# Altium schematic symbol library RCL.SchLib: 16 symbols
Pins are listed as number, name and electrical type; pins without a type are passive.

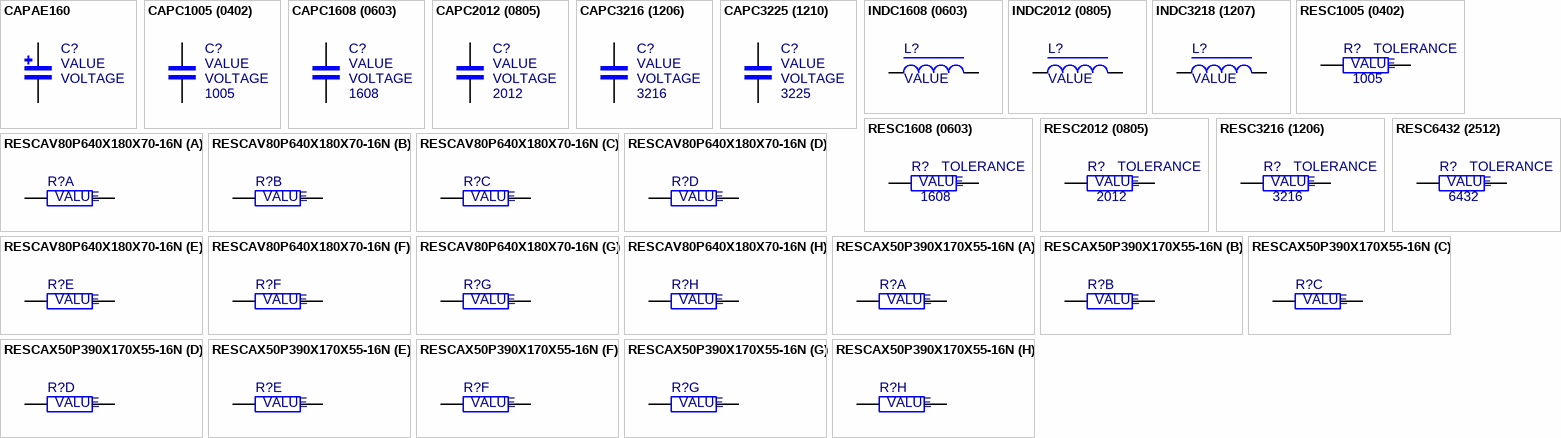
[diagram p0: symbols CAPAE160 to RESCAX50P390X170X55-16N]

## CAPAE160
designator C?  Voltage Rating: VOLTAGE  (hidden comment: CAPAE160)
Capacitor; Last Updated: 2015-06-18; ComponentLink1Description: Datasheet; Created: 2015-06-18; Value: VALUE
pins: 1, 2

## CAPC1005 (0402)
designator C?  Package: 1005  Voltage Rating: VOLTAGE  (hidden comment: CAPC1005 (0402))
Capacitor; Package Imperial: 0402; Last Updated: 2015-02-15; ComponentLink1Description: Datasheet; Created: 2014-05-22; Value: VALUE
footprint CAPC1005 (0402) (Metric (Imperial))
pins: 1, 2

## CAPC1608 (0603)
designator C?  Package: 1608  Voltage Rating: VOLTAGE  (hidden comment: CAPC1608 (0603))
Capacitor; Package Imperial: 0603; ComponentLink1Description: Datasheet; Last Updated: 2014-11-17; Created: 2014-11-17; Value: VALUE
footprint CAPC1608 (0603) (Metric (Imperial))
pins: 1, 2

## CAPC2012 (0805)
designator C?  Package: 2012  Voltage Rating: VOLTAGE  (hidden comment: CAPC2012 (0805))
Capacitor; Package Imperial: 0805; Last Updated: 2015-02-15; Tolerance: TOLERANCE; ComponentLink1Description: Datasheet; Created: 2014-05-20; Value: VALUE
footprint CAPC2012 (0805) (Metric (Imperial))
pins: 1, 2

## CAPC3216 (1206)
designator C?  Package: 3216  Voltage Rating: VOLTAGE  (hidden comment: CAPC3216 (1206))
Capacitor; Package Imperial: 1206; ComponentLink1Description: Datasheet; Last Updated: 2015-02-15; Created: 2013-09-28; Value: VALUE
footprint CAPC3216 (1206) (Metric (Imperial))
pins: 1, 2

## CAPC3225 (1210)
designator C?  Package: 3225  Voltage Rating: VOLTAGE  (hidden comment: CAPC3225 (1210))
Capacitor; Package Imperial: 1210; Last Updated: 2015-02-15; ComponentLink1Description: Datasheet; Created: 2014-06-09; Value: VALUE
footprint CAPC3225 (1210) (Metric (Imperial))
pins: 1, 2

## INDC1608 (0603)
designator L?  (value not drawn)
Inductor; ComponentLink1Description: Datasheet; Last Updated: 2015-02-15; Created: 2015-02-15; Value: VALUE
footprint INDC1608 (0603) (Metric (Imperial))
pins: 1, 2

## INDC2012 (0805)
designator L?  (value not drawn)
Inductor; ComponentLink1Description: Datasheet; Last Updated: 2015-02-15; Created: 2015-02-15; Value: VALUE
footprint INDC2012 (0805) (Metric (Imperial))
pins: 1, 2

## INDC3218 (1207)
designator L?  (value not drawn)
Inductor; ComponentLink1Description: Datasheet; Last Updated: 2015-03-20; Created: 2015-03-20; Value: VALUE
footprint INDC3218 (1207) (Chip Inductor, 2-Leads, Body 3,20x1,80mm, IPC Medium Density)
pins: 1, 2

## RESC1005 (0402)
designator R?  Package: 1005  (hidden comment: RESC1005 (0402))
Resistor; Package Imperial: 0402; Last Updated: 2015-02-15; ComponentLink1Description: Datasheet; Created: 2014-06-08; Tolerance: TOLERANCE; Value: VALUE
footprint RESC1005 (0402) (Metric (Imperial))
pins: 1, 2

## RESC1608 (0603)
designator R?  Package: 1608  (hidden comment: RESC1608 (0603))
Resistor; Power Rating: 0.1W; Package Imperial: 0603; ComponentLink1Description: Datasheet; Last Updated: 2015-02-15; Created: 2014-02-07; Tolerance: TOLERANCE; Value: VALUE
footprint RESC1608 (0603) (Metric (Imperial))
pins: 1, 2

## RESC2012 (0805)
designator R?  Package: 2012  (hidden comment: RESC2012 (0805))
Resistor; Package Imperial: 0805; ComponentLink1Description: Datasheet; Last Updated: 2015-02-15; Created: 2014-12-20; Tolerance: TOLERANCE; Value: VALUE
footprint RESC2012 (0805) (Metric (Imperial))
pins: 1, 2

## RESC3216 (1206)
designator R?  Package: 3216  (hidden comment: RESC3216 (1206))
Resistor; Package Imperial: 1206; ComponentLink1Description: Datasheet; Last Updated: 2015-02-15; Created: 2013-09-28; Tolerance: TOLERANCE; Value: VALUE
footprint RESC3216 (1206) (Metric (Imperial))
pins: 1, 2

## RESC6432 (2512)
designator R?  Package: 6432  (hidden comment: RESC6432 (2512))
Resistor; Package Imperial: 2512; ComponentLink1Description: Datasheet; Last Updated: 2015-02-15; Created: 2014-08-23; Tolerance: TOLERANCE; Value: VALUE
footprint RESC6432 (2512) (Chip Resistor, 2-Leads, Body 5,65x3,10mm, IPC Medium Density)
pins: 1, 2

## RESCAV80P640X180X70-16N
designator R?  (value not drawn)
Resistor; Last Updated: 2015-02-15; ComponentLink1Description: Datasheet; Created: 2014-06-08; Package: RESCAV80P640X180X70-8N; Value: VALUE
footprint RESCAV80P640X180X70-16N
part A pins: 1, 16
part B pins: 2, 15
part C pins: 3, 14
part D pins: 4, 13
part E pins: 5, 12
part F pins: 6, 11
part G pins: 7, 10
part H pins: 8, 9

## RESCAX50P390X170X55-16N
designator R?  (value not drawn)
Resistor; Last Updated: 2015-02-15; ComponentLink1Description: Datasheet; Created: 2014-06-08; Package: RESCAX50P390X170X55-16N; Value: VALUE
footprint RESCAX50P390X170X55-16N
part A pins: 1, 16
part B pins: 2, 15
part C pins: 3, 14
part D pins: 4, 13
part E pins: 5, 12
part F pins: 6, 11
part G pins: 7, 10
part H pins: 8, 9